# Altium footprint library STM32 Core board.PcbLib: 42 footprints (part 1 of 3)
Each footprint in its own frame and in the unit in brackets; x right, y up, seen from the top. Pads: shape width x height; smd on the part's side, far side on the other; paste and mask are expansions set on the pad; w line width, h text height; cw(c..) or ccw(c..) is an arc to the next point about the centre after c.
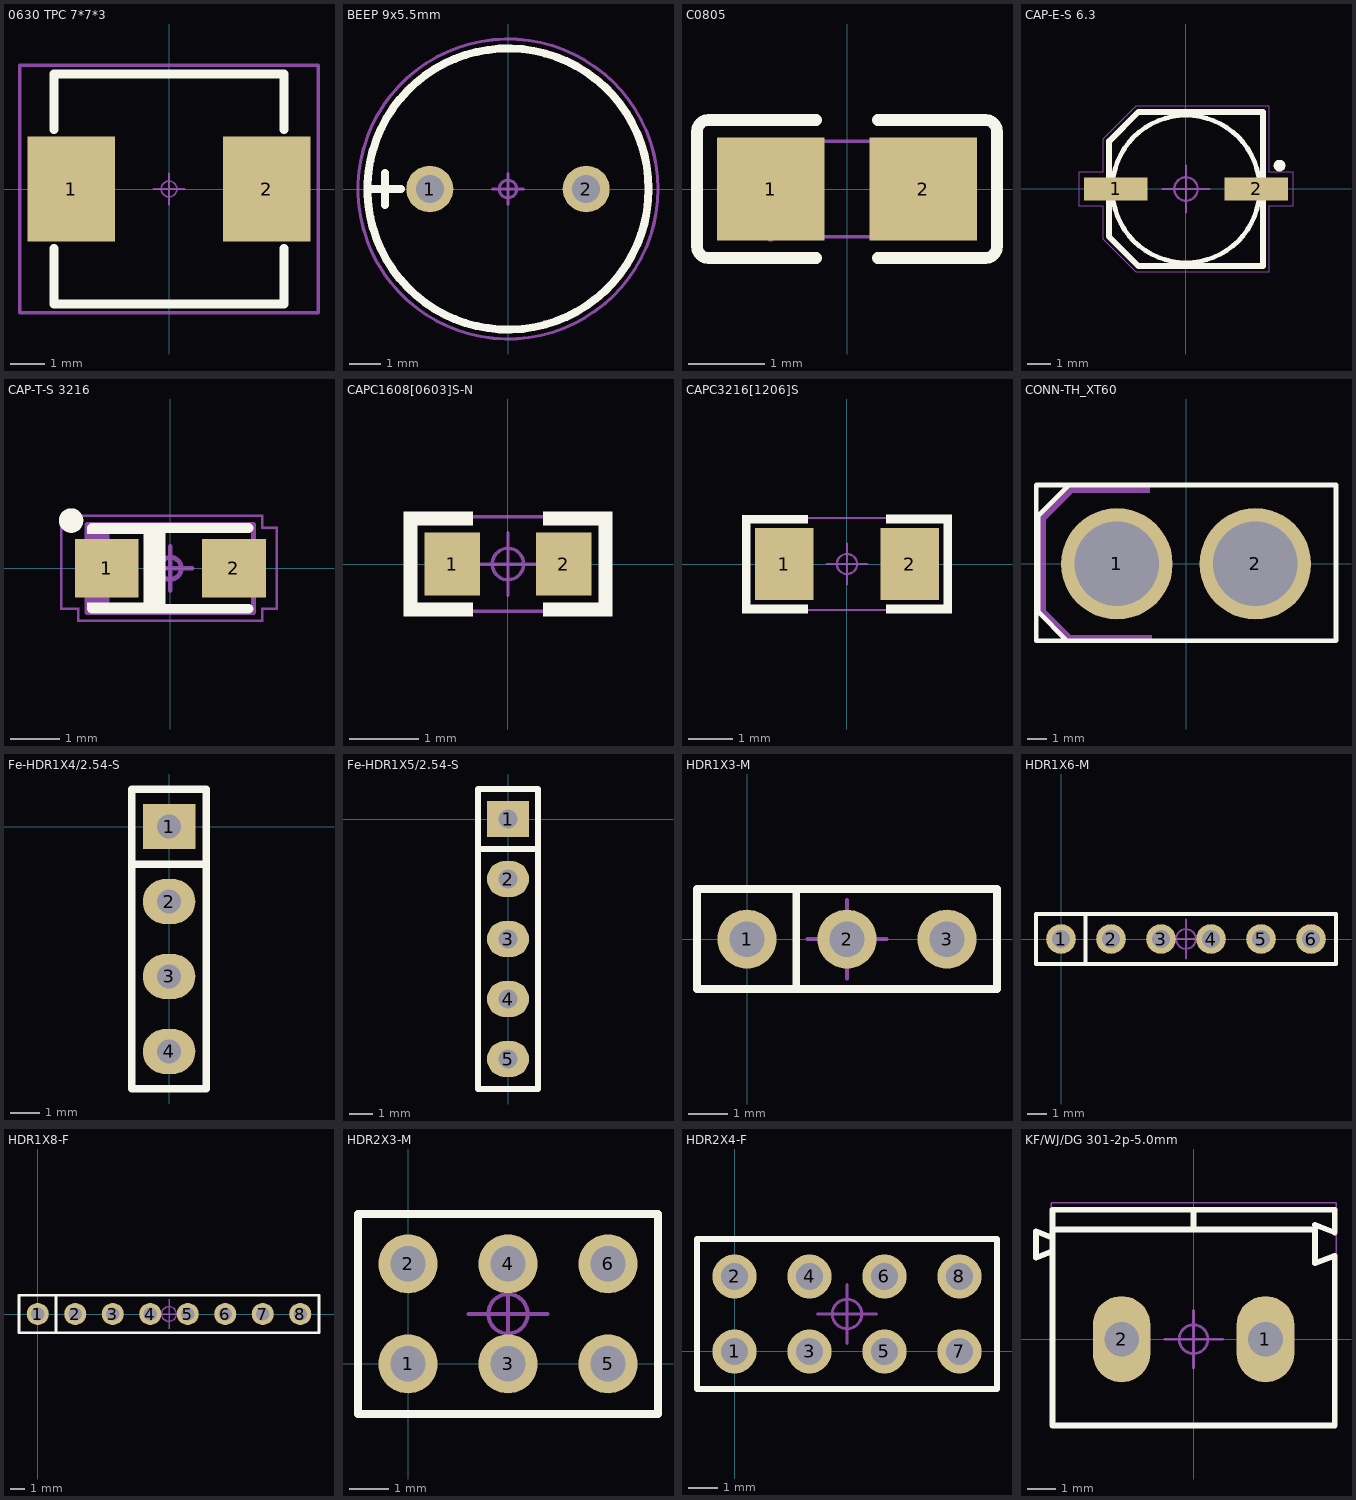
[diagram p0: the footprints below, top view; thin cyan lines are the x and y axes]

## 0630 TPC 7*7*3 [mm] "12mmx12mmx6.5mm 一体成型功率电感"
height 6.5
pads (2):
  rect 2.5x3 smd: 1(-2.8,0) 2(2.8,0)
Top Overlay:
  lines w0.254: -3.3,-1.7 -3.3,-3.3 3.3,-3.3 3.3,-1.7 ; -3.3,1.7 -3.3,3.3 3.3,3.3 3.3,1.7
Top Designator:
  text ".Designator" at -2.253,-0.226 h1
Top Component Outline:
  lines w0.1: -4.275,-3.55 4.275,-3.55 4.275,3.55 -4.275,3.55 -4.275,-3.55
Top Component Center:
  circle w0.05: c0,0 r0.225
  lines w0.05: -0.45,0 0.45,0 ; 0,-0.45 0,0.45
3D body: height 3, standoff 0, extent -3.3,-3.3 3.3,3.3

## BEEP 9x5.5mm [mm] "蜂鸣器 9x5.5mm"
height 0.6
pads (2):
  round 1.5 hole 0.9: 1(-2.5,0) 2(2.5,0)
Top Overlay:
  circle w0.254: c0,0 r4.5
  lines w0.254: -4.496,0 -3.429,0 ; -3.937,-0.508 -3.937,0.508
Top Designator:
  text ".Designator" at 0.226,-2.253 h1
Top Component Outline:
  circle w0.1: c0,0 r4.8
Top Component Center:
  circle w0.1: c0,0 r0.28
  lines w0.1: -0.5,0 0.5,0 ; 0,-0.5 0,0.5
3D body "cx-0905c.stp": height 5.05, standoff -5.45, extent -4.774,-4.8 4.826,4.8

## C0805 [mm]
pads (2):
  rect 1.41x1.35 smd paste-100 mask+0.051: 1(-1,0) 2(1,0)
Top Overlay:
  lines w0.152: -0.401,-0.904 -1.811,-0.904 cw(c-1.811,-0.751) -1.964,-0.751 -1.964,0.751 cw(c-1.811,0.751) -1.811,0.904 -0.401,0.904 ; 0.401,-0.904 1.811,-0.904 ccw(c1.811,-0.751) 1.964,-0.751 1.964,0.751 ccw(c1.811,0.751) 1.811,0.904 0.401,0.904
Top Paste:
  region: 0.475,-0.62 0.475,-0.2 0.92,-0.2 0.92,0.25 0.48,0.25 0.475,0.66 0.525,0.71 1.675,0.71 1.725,0.66 1.725,-0.62 1.675,-0.67 0.525,-0.67
  region: -1.675,-0.62 -1.675,0.66 -1.625,0.71 -0.475,0.71 -0.425,0.66 -0.42,0.25 -0.87,0.25 -0.87,-0.2 -0.43,-0.2 -0.425,-0.62 -0.475,-0.67 -1.625,-0.67
Bottom Component Outline:
  region: -0.94,-0.625 -0.941,-0.601 -0.976,-0.568 -1.024,-0.568 -1.059,-0.601 -1.06,-0.625 -1.059,-0.649 -1.024,-0.683 -0.976,-0.683 -0.941,-0.649 -0.94,-0.625
  region: 1,0.625 1,-0.625 0.5,-0.625 0.5,0.625
  region: -1,-0.625 -1,0.625 -0.5,0.625 -0.5,-0.625
  lines w0.051: -1,-0.625 1,-0.625 1,0.625 -1,0.625 -1,-0.625

## CAP-E-S 6.3 [mm] "贴片 铝电解电容 6.3mm"
height 5.5
pads (2):
  rect 2.7x1 smd: 1(-3,0) 2(3,0)
Top Overlay:
  circle w0.25: c4,1 r0.125
  circle w0.2: c0,0 r3.15
  lines w0.254: -3.3,2.032 -3.3,-2.032 -2.032,-3.3 3.3,-3.3 3.3,3.3 -2.032,3.3 -3.287,2.045
Top Designator:
  text ".Designator" at -2.253,-0.226 h1
Top Component Outline:
  region: -3.524,0.699 -3.524,0.749 -4.6,0.749 -4.6,0.699
  region: -3.525,2.15 -3.575,2.15 -3.575,0.7 -3.525,0.7
  rectangle: -4.6,-0.75 -4.55,0.75
  region: -3.524,-0.751 -3.524,-0.701 -4.6,-0.701 -4.6,-0.751
  rectangle: -3.575,-2.15 -3.525,-0.7
  region: 3.575,3.525 3.575,3.575 -2.15,3.575 -2.15,3.525
  region: -2.115,3.54 -2.15,3.575 -3.575,2.15 -3.54,2.115
  region: -2.15,-3.525 -2.15,-3.575 3.575,-3.575 3.575,-3.525
  region: -3.539,-2.115 -3.575,-2.15 -2.15,-3.575 -2.114,-3.54
  region: 3.575,3.575 3.525,3.575 3.525,0.7 3.575,0.7
  region: 3.525,0.75 3.525,0.7 4.6,0.7 4.6,0.75
  region: 4.6,0.75 4.55,0.75 4.55,-0.75 4.6,-0.75
  region: 4.6,-0.75 4.6,-0.7 3.525,-0.7 3.525,-0.75
  region: 3.575,-0.7 3.525,-0.7 3.525,-3.575 3.575,-3.575
Top Component Center:
  circle w0.1: c0,0 r0.5
  lines w0.1: -1,0 1,0 ; 0,-1 0,1
3D body "SL-E.step": height 5.2, standoff 0, extent -3.5,-3.302 3.5,3.298

## CAP-T-S 3216 [mm] "贴片 钽电容 A型 3216"
height 1.8
pads (2):
  rect 1.3x1.2 smd: 1(-1.3,0) 2(1.3,0)
Top Overlay:
  circle w0.25: c-2.025,0.975 r0.125
  rectangle: -0.549,-0.9 -0.099,0.85
  region: -0.375,-0.7 -1.7,-0.7 -1.7,-0.825 -0.375,-0.825
  rectangle: -1.7,0.7 -0.375,0.85
  lines w0.2: -1.6,-0.825 1.6,-0.825 ; -1.6,0.825 1.6,0.825
Top Designator:
  text ".Designator" at 2.253,0.301 h1
Mechanical 13:
  rectangle: -1.7,-0.9 -1.243,0.9
  lines w0.1: -1.7,-0.9 1.7,-0.9 1.7,0.9 -1.7,0.9 -1.7,-0.9
Top Component Outline:
  region: 2.2,0.85 2.15,0.85 2.15,-0.85 2.2,-0.85
  region: -1.9,-1.05 -1.9,-1.1 1.9,-1.1 1.9,-1.05
  region: 1.9,1.05 1.9,1.1 -2.251,1.1 -2.251,1.05
  rectangle: -2.251,-0.85 -2.201,1.1
  region: 1.85,0.85 1.85,0.8 2.2,0.8 2.2,0.85
  rectangle: 1.85,0.8 1.9,1.1
  region: 2.2,-0.85 2.2,-0.8 1.85,-0.8 1.85,-0.85
  rectangle: 1.85,-1.1 1.9,-0.8
  region: -1.85,-0.85 -1.85,-0.8 -2.251,-0.8 -2.251,-0.85
  region: -1.85,-0.8 -1.9,-0.8 -1.9,-1.1 -1.85,-1.1
Top Component Center:
  circle w0.1: c0,0 r0.225
  lines w0.1: -0.45,0 0.45,0 ; 0,-0.45 0,0.45
3D body "TAJ-A.STEP": height 1.6, standoff 0, extent -1.6,-0.8 1.6,0.8

## CAPC1608[0603]S-N [mm] "0603贴片电容 有丝印 2脚 1.60x0.80mm IPC中密度"
height 0.85
pads (2):
  rect 0.8x0.9 smd: 1(-0.8,0) 2(0.8,0)
Top Overlay:
  region: 1.5,-0.55 0.5,-0.55 0.5,-0.75 1.5,-0.75
  region: 1.5,0.75 0.5,0.75 0.5,0.55 1.5,0.55
  rectangle: -1.5,0.55 -0.5,0.75
  rectangle: -1.5,-0.75 -0.5,-0.55
  region: 1.5,-0.747 1.5,0.753 1.3,0.753 1.3,-0.747
  region: -1.5,0.753 -1.5,-0.747 -1.3,-0.747 -1.3,0.753
Top Designator:
  text ".Designator" at -2.253,-0.226 h1
Top Component Outline:
  region: -1.45,-0.65 -1.45,-0.7 1.45,-0.7 1.45,-0.65
  region: 1.45,0.7 1.4,0.7 1.4,-0.7 1.45,-0.7
  region: 1.45,0.65 1.45,0.7 -1.45,0.7 -1.45,0.65
  rectangle: -1.45,-0.7 -1.4,0.7
Top Component Center:
  circle w0.05: c0,0 r0.225
  lines w0.05: -0.45,0 0.45,0 ; 0,-0.45 0,0.45
3D body: height 0.79, standoff 0, extent -0.45,-0.406 0.45,0.406
3D body: height 0.79, standoff 0, extent 0.45,-0.406 0.8,0.407
3D body: height 0.79, standoff 0, extent -0.8,-0.406 -0.45,0.406

## CAPC3216[1206]S [mm] "1206贴片电容 有丝印 2脚 3.20x1.60mm IPC中密度"
height 1.35
pads (2):
  rect 1.3x1.6 smd: 1(-1.4,0) 2(1.4,0)
Top Overlay:
  region: 2.346,-0.906 0.871,-0.906 0.871,-1.106 2.346,-1.106
  rectangle: -2.35,-1.1 -0.875,-0.9
  region: 2.346,1.106 0.871,1.106 0.871,0.906 2.346,0.906
  rectangle: -2.35,0.9 -0.875,1.1
  region: 2.35,-1.102 2.35,1.098 2.15,1.098 2.15,-1.102
  region: -2.35,1.1 -2.35,-1.1 -2.15,-1.1 -2.15,1.1
Top Designator:
  text ".Designator" at -2.253,-0.226 h1
Top Component Outline:
  rectangle: -2.3,-1.05 -2.25,1.05
  region: 2.3,1 2.3,1.05 -2.3,1.05 -2.3,1
  region: 2.3,1.05 2.25,1.05 2.25,-1.05 2.3,-1.05
  region: -2.3,-1 -2.3,-1.05 2.3,-1.05 2.3,-1
Top Component Center:
  circle w0.05: c0,0 r0.225
  lines w0.05: -0.45,0 0.45,0 ; 0,-0.45 0,0.45
3D body "C 1206.STEP": height 1.21, standoff -0.01, extent -1.6,-0.81 1.6,0.81

## CONN-TH_XT60 [mm]
pads (2):
  round 5.8 hole 4.4 paste+0 mask+0.05: 1(-3.6,0) 2(3.6,0)
Top Overlay:
  lines w0.254: -5.999,-4 -7.8,-4 -7.8,4.1 -6.101,4.1 ; -5.301,4.1 7.8,4.1 7.8,-4 -6.2,-4 -7.699,-2.499 -7.699,2.499 -6.101,4.1 ; -5.199,4.1 -6.101,4.1
Mechanical 6:
  region: -1.9,4.1 -6.1,4.1 -7.7,2.5 -7.7,-2.5 -6.2,-4 -1.8,-4 -1.8,-3.7 -6,-3.7 -7.3,-2.4 -7.3,2.3 -5.9,3.7 -1.9,3.7
Mechanical 15:
  region: -7.69,-4.05 -7.69,-4.025 -7.725,-3.99 -7.775,-3.99 -7.81,-4.025 -7.81,-4.05 -7.81,-4.075 -7.775,-4.11 -7.725,-4.11 -7.69,-4.075
  region: -1.85,0 -1.85,0.172 -1.917,0.51 -2.049,0.829 -2.241,1.116 -2.484,1.359 -2.771,1.551 -3.09,1.683 -3.428,1.75 -3.772,1.75 -4.11,1.683 -4.429,1.551 -4.716,1.359 -4.959,1.116 -5.151,0.829 -5.283,0.51 -5.35,0.172 -5.35,0 -5.35,-0.172 -5.283,-0.51 -5.151,-0.829 -4.959,-1.116 -4.716,-1.359 -4.429,-1.551 -4.11,-1.683 -3.772,-1.75 -3.428,-1.75 -3.089,-1.683 -2.771,-1.551 -2.484,-1.359 -2.241,-1.116 -2.049,-0.829 -1.917,-0.51 -1.85,-0.172
  region: 5.35,0 5.35,0.172 5.283,0.51 5.151,0.829 4.959,1.116 4.716,1.359 4.429,1.551 4.11,1.683 3.772,1.75 3.428,1.75 3.089,1.683 2.771,1.551 2.484,1.359 2.241,1.116 2.049,0.829 1.917,0.51 1.85,0.172 1.85,0 1.85,-0.172 1.917,-0.51 2.049,-0.829 2.241,-1.116 2.484,-1.359 2.771,-1.551 3.089,-1.683 3.428,-1.75 3.772,-1.75 4.11,-1.683 4.429,-1.551 4.716,-1.359 4.959,-1.116 5.151,-0.829 5.283,-0.51 5.35,-0.172
  lines w0.051: -7.75,-4.05 -7.75,4.05 7.75,4.05 7.75,-4.05 -7.75,-4.05

## Fe-HDR1X4/2.54-S [mil]
pads (4):
  rect 70x60 hole 32: 1(0,0)
  oval 70x60 hole 32: 2(0,-100) 3(0,-200) 4(0,-300)
Top Overlay:
  lines w10: -50,-50 50,-50 ; -50,-350 -50,50 50,50 50,-350 -50,-350
3D body "Female-Header-2.54-Single-4.stp": height 334.65, standoff -125.98, extent -44.21,-354.92 54.22,54.92

## Fe-HDR1X5/2.54-S [mil]
pads (5):
  rect 70x60 hole 32: 1(0,0)
  oval 70x60 hole 32: 2(0,-100) 3(0,-200) 4(0,-300) 5(0,-400)
Top Overlay:
  lines w10: -50,-50 50,-50 ; -50,-450 50,-450 50,50 -50,50 -50,-450
3D body "Female-Header-2.54-Single-5.stp": height 125.98, standoff -334.65, extent -50,-454.92 48.43,54.92

## HDR1X3-M [mm] "1x3pin, 2.54mm间距, 直插, 直排针"
height 0.6
pads (3):
  round 1.5 hole 0.9: 1(0,0) 2(2.54,0) 3(5.08,0)
Top Overlay:
  lines w0.2: 1.25,-1.25 1.25,1.25 ; -1.27,-1.27 6.35,-1.27 6.35,1.27 -1.27,1.27 -1.27,-1.27
Top Designator:
  text ".Designator" at 0.287,-0.226 h1
Top Component Outline:
  lines w0.1: -1.27,-1.27 6.35,-1.27 6.35,1.275 -1.27,1.275 -1.27,-1.27
Top Component Center:
  circle w0.1: c2.54,0 r0.5
  lines w0.1: 1.54,0 3.54,0 ; 2.54,-1 2.54,1
3D body "1001-3.STEP": height 8.54, standoff -3, extent -1.27,-1.27 6.35,1.27

## HDR1X6-M [mm] "1x6pin, 直插, 直排针, 2.54mm间距"
height 0.6
pads (6):
  round 1.5 hole 0.9: 1(0,0) 2(2.54,0) 3(5.08,0) 4(7.62,0) 5(10.16,0) 6(12.7,0)
Top Overlay:
  lines w0.2: 1.25,-1.25 1.25,1.25 ; -1.27,-1.27 -1.27,1.27 13.97,1.27 13.97,-1.27 -1.27,-1.27
Top Designator:
  text ".Designator" at 4.097,-0.226 h1
Top Component Outline:
  lines w0.1: -1.27,-1.27 -1.27,1.27 13.97,1.27 13.97,-1.27 -1.27,-1.27
Top Component Center:
  circle w0.1: c6.35,0 r0.5
  lines w0.1: 5.35,0 7.35,0 ; 6.35,-1 6.35,1
3D body "1001-6.STEP": height 8.54, standoff -3, extent -1.397,-1.27 13.843,1.27

## HDR1X8-F [mm] "1x8pin, 2.54mm间距, 直插, 直排座"
height 0.6
pads (8):
  round 1.5 hole 0.9: 1(0,0) 2(2.54,0) 3(5.08,0) 4(7.62,0) 5(10.16,0) 6(12.7,0) 7(15.24,0) 8(17.78,0)
Top Overlay:
  lines w0.2: 1.25,-1.25 1.25,1.25 ; -1.27,-1.27 19.05,-1.27 19.05,1.27 -1.27,1.27 -1.27,-1.27
Top Designator:
  text ".Designator" at 6.637,-0.226 h1
Top Component Outline:
  lines w0.1: -1.27,-1.27 19.05,-1.27 19.05,1.27 -1.27,1.27 -1.27,-1.27
Top Component Center:
  circle w0.1: c8.89,0 r0.5
  lines w0.1: 7.89,0 9.89,0 ; 8.89,-1 8.89,1
3D body "1x8 直插 单排座.stp": height 8.51, standoff -2.64, extent -1.524,-1.2 19.304,1.213

## HDR2X3-M [mm] "2x3pin, 2.54mm间距, 直插, 直排针"
height 0.6
pads (6):
  round 1.5 hole 0.9: 1(0,0) 2(0,2.54) 3(2.54,0) 4(2.54,2.54) 5(5.08,0) 6(5.08,2.54)
Top Overlay:
  lines w0.2: 1.482,-1.27 6.35,-1.27 ; 6.35,-1.27 6.35,3.81 -1.27,3.81 -1.27,-1.27 6.35,-1.27
Top Designator:
  text ".Designator" at 0.287,1.045 h1
Top Component Outline:
  lines w0.1: -1.27,-1.275 6.35,-1.275 6.35,3.81 -1.27,3.81 -1.27,-1.275
Top Component Center:
  circle w0.1: c2.54,1.27 r0.5
  lines w0.1: 1.54,1.27 3.54,1.27 ; 2.54,0.27 2.54,2.27
3D body "HDR2x3.STEP": height 8.54, standoff -3, extent -1.27,-1.27 6.35,3.81

## HDR2X4-F [mm] "2x4pin, 2.54mm间距, 直插, 直排座"
height 0.6
pads (8):
  round 1.5 hole 0.9: 1(0,0) 2(0,2.54) 3(2.54,0) 4(2.54,2.54) 5(5.08,0) 6(5.08,2.54) 7(7.62,0) 8(7.62,2.54)
Top Overlay:
  lines w0.2: -1.27,-1.27 8.89,-1.27 8.89,3.81 -1.27,3.81 -1.27,-1.27
Top Designator:
  text ".Designator" at 6.063,1.496 h1
Top Component Outline:
  lines w0.1: -1.27,-1.27 8.89,-1.27 8.89,3.81 -1.27,3.81 -1.27,-1.27
Top Component Center:
  circle w0.1: c3.81,1.27 r0.5
  lines w0.1: 2.81,1.27 4.81,1.27 ; 3.81,0.27 3.81,2.27
3D body "2x4.stp": height 8.5, standoff -3.05, extent -1.505,-1.265 9.155,3.815

## KF/WJ/DG 301-2p-5.0mm [mm] "2P 5mm间距 接线端子"
height 0.6
pads (2):
  oval 2x3 hole 1.2: 1(2.5,0) 2(-2.5,0)
Top Overlay:
  lines w0.2: -4.905,3.056 -5.475,2.833 -5.475,3.753 -4.903,3.53 ; -4.905,3.095 -4.905,3.81 -4.905,4.5 ; 4.219,3.81 4.219,2.636 4.905,2.904 4.905,-2.997 ; 4.219,3.976 4.905,3.708 4.905,4.5
  lines w0.203: -4.905,3.056 -4.905,-2.997 4.905,-2.997 ; -4.905,3.81 4.219,3.81 ; -4.905,4.5 4.905,4.5 ; 0,3.81 0,4.445
Top Designator:
  text ".Designator" at -2.253,-0.226 h1
Top Component Outline:
  lines w0.05: -4.95,-2.971 -4.95,4.75 4.95,4.75 4.95,-2.971 -4.95,-2.971
Top Component Center:
  circle w0.1: c0,0 r0.5
  lines w0.1: -1,0 1,0 ; 0,-1 0,1
3D body "Terminal-Screw-3A-2way.step": height 10.1, standoff -2.9, extent -5.6,-3 5,4.6